# Altium schematic symbol library DMD_Card.SchLib: 58 symbols
Pins are listed as number, name and electrical type; pins without a type are passive.

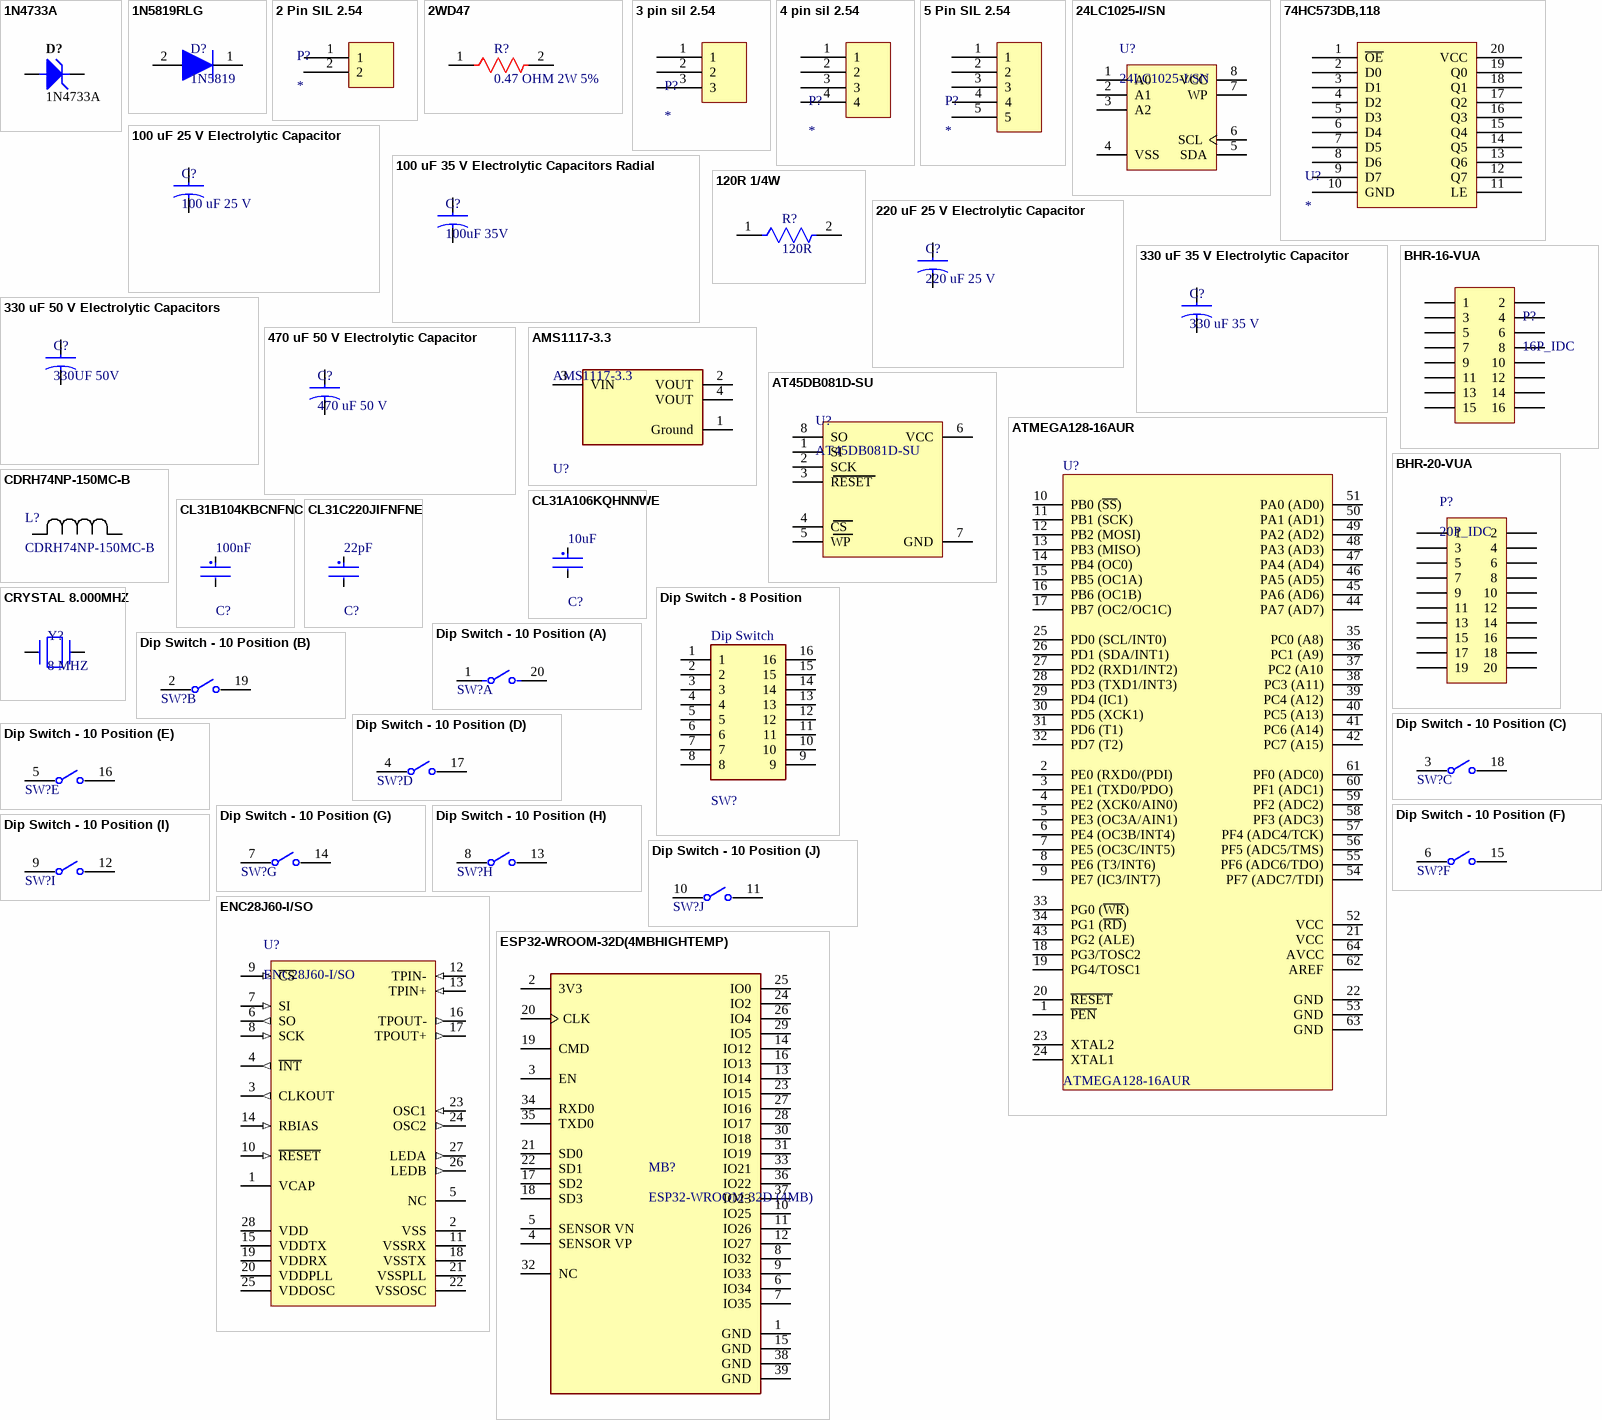
[diagram p0: symbols 1N4733A to ESP32-WROOM-32D(4MBHIGHTEMP)]

## 1N4733A
designator D?
Zener Diode, 5.1V, 1W, 5%, -65 to 200 degC, 2-Pin DO-41, Body 2.72 x 5.2 mm, RoHS; Manufacturer: Fairchild Semiconductor; ZZ (Max) (ohm): 7; IR (uA): 10; VZ (Min.) (V): 4.845; Test Current IZ (mA): 49; VZ (Max.) (V): 5.355; PD (W): 1; PartNumber: 1N4733A; Tolerance: 5%; ComponentLink1Description: Manufacturer URL; ComponentLink2Description: Datasheet; DatasheetVersion: Rev. H3; ComponentLink3URL: http://www.fairchildsemi.com/dwg/DO/DO41A.pdf; ComponentLink1URL: http://www.fairchildsemi.com/; Operating and Storage Temperature Range: -65 to 200 degC; ComponentLink2URL: http://www.fairchildsemi.com/ds/1N/1N4744A.pdf; PackageReference: DO-41-2; ComponentLink3Description: Package Specification; PackageVersion: Rev. 2; RoHS: TRUE; Mounting Technology: Through Hole; PackageDescription: 2-Pin Axial leaded, Body 2.72 x 5.2 mm, Lead Spread 25.4 mm
footprint Zener Diode - 41-2_V (2-Leads, Axial leaded, Body 2.72x5.2mm, Pin Spacing 9mm)
pins: 1 A, 2 K

## 1N5819RLG
designator D?, comment 1N5819
Rectifier, 2-Pin Axial_Lead, Pb-Free, Tape and Reel; Manufacturer: On Semiconductor; PartNumber: 1N5819RLG; IFSM Max (A): 25; Configuration: Single; ComponentLink1Description: Manufacturer URL; ComponentLink2Description: Datasheet; ComponentLink3Description: Package Specification; Mounting Technology: Through Hole; ComponentLink3URL: http://www.onsemi.cn/pub_link/Collateral/59-10.PDF; DatasheetVersion: Rev. 10; ComponentLink1URL: http://www.onsemi.com/; Packing: Tape and Reel; PackageVersion: Rev. U, 02/2005; PackageDescription: 2-Pin, Axial Lead, Diameter 2.35 mm; ComponentLink2URL: http://www.onsemi.cn/pub_link/Collateral/1N5817-D.PDF; RoHS: TRUE; PackageReference: AXIAL_LEAD-2-59-10; Supplier 1: Newark; Supplier Part Number 1: 18C9038
footprint SMA (DO-214AC)
pins: 1 K, 2 A

## 2 Pin SIL 2.54
designator P?
footprint 2 Pin SIL 2.54
pins: 1, 2

## 2WD47
designator R?, comment 0.47 OHM 2W 5%
RESISTOR 2 WATT METAL OXIDE FILM FLAMEPROOF 0.47 OHM 5% AXIAL LEAD; Manufacturer: NTE Electronics; Manufacturer Part Number: 2WD47; Resistance: 470mR; Temperature Coefficient: 200ppm/°C; Supplier 1: Newark; RoHS: Yes; Category: Through-Hole Resistors; Pricing 1: 1=0.18800 (USD); Mount: Through Hole; Case/Package: Metal; Weight: 0.0024lb; Min Operating Temperature: -55°C; Max Operating Temperature: 200°C; Tolerance: 5%; Power Rating: 2W; Termination: Axial; Length: 3.25inch; Width: 0.25inch; Height: 0.25inch; RoHS Compliant: No; ComponentLink1URL: http://www.onlinecomponents.com/productFiles/mf-NTE/twow.pdf?src-supplier=Onlinecomponents.com; ComponentLink1Description: http://www.onlinecomponents.com/productFiles/mf-NTE/twow.pdf?src-supplier=Onlinecomponents.com; ComponentLink2URL: http://www.alliedelec.com/m/d/d44ce2bb19ec670cc5afc3c1f91c41cf.pdf?src-supplier=Allied+Electronics; ComponentLink2Description: http://www.alliedelec.com/m/d/d44ce2bb19ec670cc5afc3c1f91c41cf.pdf?src-supplier=Allied+Electronics; Supplier Part Number 1: 33C8349
footprint Axial 0.6
pins: 1, 2

## 3 pin sil 2.54
designator P?
footprint 3 pin sil 2.54
pins: 1, 2, 3

## 4 pin sil 2.54
designator P?
footprint 4 pin sil 2.54
pins: 1, 2, 3, 4

## 5 Pin SIL 2.54
designator P?
footprint 5 Pin SIL 2.54
pins: 1, 2, 3, 4, 5

## 24LC1025-I/SN
designator U?
1 Mbit, 400kHz, 2.5V, 8-Pin SOIC 150mil, Industrial Temperature; DatasheetVersion: revF, Oct-2008; Code_JEDEC: MS-012; Code_IPC: SOIC127P600-8; PackageVersion: revBB, Aug-2009; PackageDescription: 8-Lead Plastic Small Outline (SN) - Narrow, 3.90mm Body [SOIC]; PackageReference: SOIC-SN8; PartNumber: 24LC1025-I/SN; Supplier 1: Digi-Key; Supplier Part Number 1: 24LC1025-I/SN-ND
footprint SOIC-8 (SOIC, 8-Leads, Body 4.9x3.9mm, Pitch 1.27mm, IPC Low Density)
pins: 1 A0, 2 A1, 3 A2, 4 VSS, 5 SDA, 6 SCL, 7 WP, 8 VCC

## 74HC573DB,118
designator U?
IC LATCH TRANSP OCT D 3ST 20SSOP; Manufacturer: NXP Semiconductors; Manufacturer Part Number: 74HC573DB,118; Logic Function: D-Type,Latch; Number of Bits: 8; Propagation Delay: 225ns; Max Supply Voltage: 6V; Min Supply Voltage: 2V; Polarity: Non-Inverting; High Level Output Current: 7.8mA; Operating Supply Voltage: 5V; Number of Elements: 1; Turn-On Delay Time: 14ns; Output Type: 3-STATE; Quiescent Current: 8uA; Supplier 1: Newark; RoHS: Yes; Category: Latches and Flip Flops; Stock 1: 218; Pricing 1: 1=0.94000, 10=0.77600, 25=0.68000, 50=0.58500, 100=0.48900 (USD); Mount: Surface Mount; Case/Package: SSOP; Number of Pins: 20; Contact Plating: Gold; Min Operating Temperature: -40°C; Max Operating Temperature: 125°C; Packaging: Tape and Reel; Low Level Output Current: 7.8mA; Package Quantity: 1000; Number of Circuits: 8; Number of Output Lines: 8; Number of Input Lines: 8; Independent Circuits: 1; Technology: CMOS; Series: 74HC; Radiation Hardening: No; RoHS Compliant: Yes; ComponentLink1URL: https://datasheet.ciiva.com/1881/74hc-hct573-1881397.pdf?src-supplier=Digi-Key; ComponentLink1Description: https://datasheet.ciiva.com/1881/74hc-hct573-1881397.pdf?src-supplier=Digi-Key
footprint SOIC127P1030X265-20N
pins: 1 ~{OE}, 2 D0, 3 D1, 4 D2, 5 D3, 6 D4, 7 D5, 8 D6, 9 D7, 10 GND, 11 LE, 12 Q7, 13 Q6, 14 Q5, 15 Q4, 16 Q3, 17 Q2, 18 Q1, 19 Q0, 20 VCC

## 100 uF 25 V Electrolytic Capacitor
designator C?, comment 100 uF 25 V
RZ Series Radial 25 V 100 uF Ø 6.3 x 11 mm 105 °C Electrolytic Capacitor; Manufacturer: Samwha; Manufacturer Part Number: RZ1E107M6L011BB280; Capacitance: 100uF; Voltage Rating: 25V; Supplier 1: Future Electronics; RoHS: Yes; Pricing 1: 3600=0.03300 (USD); Case/Package: Radial; Lead Free: Lead Free; ComponentLink1URL: http://www.samwha.com/electric/product/list_pdf2/RZ.pdf?src-supplier=Future+Electronics; ComponentLink1Description: http://www.samwha.com/electric/product/list_pdf2/RZ.pdf?src-supplier=Future+Electronics; Supplier Part Number 1: 1048642
footprint Electrolytic Capacitors_6.3 mm Dia
pins: 1, 2

## 100 uF 35 V Electrolytic Capacitors Radial
designator C?, comment 100uF 35V
Aluminum Electrolytic Capacitors Radial, Can - 1000 Hrs @ 105°C; Manufacturer: Panasonic; Manufacturer Part Number: EEU-HD1V101; Tolerance: 20%; Ripple Current: 150mA; Life (Hours): 1000Hour; Lead/Base Style: Straight; Polarity: Polar; Lead Diameter: 0.5mm; Supplier 1: Digi-Key; RoHS: Yes; Category: Aluminum Electrolytic Capacitors; Pricing 1: 1=0.85000, 10=0.60000, 50=0.45340, 100=0.39500, 500=0.29256, 1000=0.24868, 2500=0.23405, 5000=0.21942 (USD); Mount: Through Hole; Case/Package: Radial; Number of Pins: 2; Min Operating Temperature: -55°C; Max Operating Temperature: 105°C; Capacitance: 100uF; Packaging: Bulk; Voltage Rating: 35V; Package Quantity: 200; Voltage Rating (DC): 35V; Termination: Radial; Ripple Current (AC): 150mA; Voltage: 35V; Series: HD; Construction: RADIAL; Diameter: 6.3mm; Length: 11.2mm; Height: 11.2mm; Lead Pitch: 2.5mm; Height - Seated (Max): 0.5inch; Radiation Hardening: No; REACH SVHC: No SVHC; Lead Free: Lead Free; RoHS Compliant: Yes; ComponentLink1URL: https://datasheet.ciiva.com/11779/0900766b80fe5b03-11779839.pdf?src-supplier=RSComponents; ComponentLink1Description: https://datasheet.ciiva.com/11779/0900766b80fe5b03-11779839.pdf?src-supplier=RSComponents; Supplier Part Number 1: P15169-ND
footprint CAP_PAN_EEE_D8_PAN
pins: 1, 2

## 120R 1/4W
designator R?, comment 120R
RES 120 OHM 1/4W 0.1% AXIAL; Manufacturer: Yageo; Manufacturer Part Number: MFP-25BRD52-120R; Max Power Dissipation: 250mW; Temperature Coefficient: 25ppm/°C; Supplier 1: Digi-Key; RoHS: Yes; Category: Through-Hole Resistors; Stock 1: 4420; Pricing 1: 1=0.70000, 10=0.49900, 25=0.38960, 50=0.32960, 100=0.25970, 250=0.21972, 500=0.17978, 1000=0.13983 (USD); Case/Package: Axial; Min Operating Temperature: -55°C; Max Operating Temperature: 155°C; Package Quantity: 1; Resistance: 120R; Tolerance: 0.1%; Packaging: Tape and Reel; Resistor Type: Metal Film; Number of Terminations: 2; Series: MFP; Length: 0.248inch; Lead Free: Lead Free; RoHS Compliant: Yes; ComponentLink1URL: https://datasheet.ciiva.com/2713/yageolr-mfp-2013-2713048.pdf?src-supplier=Digi-Key; ComponentLink1Description: https://datasheet.ciiva.com/2713/yageolr-mfp-2013-2713048.pdf?src-supplier=Digi-Key; ComponentLink2URL: https://datasheet.ciiva.com/2713/yageolr-mfp-2013-2713049.pdf?src-supplier=Digi-Key; ComponentLink2Description: https://datasheet.ciiva.com/2713/yageolr-mfp-2013-2713049.pdf?src-supplier=Digi-Key; Supplier Part Number 1: 120ADCT-ND
footprint AXIAL 0.4
pins: 1, 2

## 220 uF 25 V Electrolytic Capacitor
designator C?, comment 220 uF 25 V
SD Series 25 V 220 uF 85°C 2 KHrs LS=3.5mm Radial Alum Electrolytic Capacitor; Manufacturer: Samwha; Manufacturer Part Number: SD1E227M0811MPF180; Supplier 1: Future Electronics; RoHS: No; Pricing 1: 1000=0.031500 (USD); Supplier Part Number 1: 5083998
footprint Multy_Radial_Capacitor
pins: 1, 2

## 330 uF 35 V Electrolytic Capacitor
designator C?, comment 330 uF 35 V
WB Series 35 V 330 uF 10 x 16 mm LS=5 mm 105°C Aluminum Electrolytic Capacitor; Manufacturer: Samwha; Manufacturer Part Number: WB1V337M10016BB; Supplier 1: Future Electronics; RoHS: No; Pricing 1: 1000=0.09360, 3000=0.07780, 4000=0.07720, 10000=0.07560, 15000=0.07490 (USD); Lead Free: Lead Free; Supplier Part Number 1: 2051425
footprint Multy_Radial_Capacitor
pins: 1, 2

## 330 uF 50 V Electrolytic Capacitors
designator C?, comment 330UF 50V
Aluminum Electrolytic Capacitors Radial, Can - 10000 Hrs @ 105°C; Manufacturer: Rubycon; Manufacturer Part Number: 50YXJ330M10X20; Tolerance: 20%; Ripple Current: 1.22A; Impedance: 60mR; Life (Hours): 10000Hour; Supplier 1: Digi-Key; RoHS: Yes; Category: Aluminum Electrolytic Capacitors; Stock 1: 72; Pricing 1: 1=0.82000, 10=0.57600, 50=0.43560, 100=0.37940, 500=0.28106, 1000=0.23890, 2500=0.22485, 5000=0.21080 (USD); Mount: Through Hole; Case/Package: Radial; Min Operating Temperature: -40°C; Max Operating Temperature: 105°C; Capacitance: 330uF; Termination: Radial; Package Quantity: 1000; Voltage Rating: 50V; Packaging: Bulk; Voltage Rating (DC): 50V; Series: YXJ; Diameter: 10mm; Height: 20mm; Lead Pitch: 5mm; Height - Seated (Max): 0.866inch; Radiation Hardening: No; REACH SVHC: No SVHC; RoHS Compliant: Yes; ComponentLink1URL: https://datasheet.ciiva.com/46371/1657883-46371898.pdf?src-supplier=Element14; ComponentLink1Description: https://datasheet.ciiva.com/46371/1657883-46371898.pdf?src-supplier=Element14; ComponentLink2URL: https://datasheet.ciiva.com/17513/e-yxj-17513675.pdf?src-supplier=Avnet+Europe; ComponentLink2Description: https://datasheet.ciiva.com/17513/e-yxj-17513675.pdf?src-supplier=Avnet+Europe; Supplier Part Number 1: 1189-1424-ND
footprint CAP_PAN_EEE_D8_PAN
pins: 1, 2

## 470 uF 50 V Electrolytic Capacitor
designator C?, comment 470 uF 50 V
RZ Series Radial 50 V 470 uF Ø 12.5 x 25 mm 105 °C Electrolytic Capacitor; Manufacturer: Samwha; Manufacturer Part Number: RZ1H477M12025BB200; Capacitance: 470uF; Voltage Rating: 50V; Supplier 1: Future Electronics; RoHS: Yes; Pricing 1: 900=0.14700 (USD); Case/Package: Radial; Lead Free: Lead Free; ComponentLink1URL: https://datasheet.ciiva.com/17436/rz-17436439.pdf?src-supplier=Future+Electronics; ComponentLink1Description: https://datasheet.ciiva.com/17436/rz-17436439.pdf?src-supplier=Future+Electronics; Supplier Part Number 1: 1060779
footprint Multy_Radial_Capacitor
pins: 1, 2

## AMS1117-3.3
designator U?
Fixed 15V 3.3V 1.3V @ 800mA SOT-223 Dropout Regulators(LDO) RoHS
footprint Advanced_Monolithic_Systems_AMS1117_IPC_A
pins: 1 Ground (power), 2 VOUT, 3 VIN (power), 4 VOUT

## AT45DB081D-SU
designator U?
IC FLASH 8MBIT 66MHZ 8SOIC, FLASH Memory IC 8Mb (264 Bytes x 4096 pages) SPI 8-SOIC; Manufacturer: Microchip / Atmel; Interface: SPI,Serial; Max Supply Voltage: 3.6V; Min Supply Voltage: 2.7V; Address Bus Width: 1b; Memory Type: FLASH,DataFLASH; Frequency: 50MHz; Access Time: 6ns; Nominal Supply Current: 15mA; Sync/Async: Synchronous; Supplier 1: Digi-Key; Manufacturer Part Number: AT45DB081D-SU; RoHS: Yes; Category: Flash; Mount: Surface Mount; Case/Package: SOIC; Number of Pins: 8; Min Operating Temperature: -40°C; Max Operating Temperature: 85°C; Packaging: Rail/Tube; Density: 8Mb; Memory Size: 8Mb; Package Quantity: 95; Series: -; Access Time-Max: 6ns; Supply Current: 15mA; Length: 5.38mm; Width: 5.41mm; Height: 1.7mm; Radiation Hardening: No; RoHS Compliant: Yes; REACH SVHC: No SVHC; ComponentLink1URL: https://datasheet.ciiva.com/15126/getdatasheetpartid-364798-15126466.pdf?src-supplier=Verical; ComponentLink1Description: https://datasheet.ciiva.com/15126/getdatasheetpartid-364798-15126466.pdf?src-supplier=Verical; ComponentLink2URL: https://datasheet.ciiva.com/20167/73-4344-20167523.pdf?src-supplier=Rapid+Electronics; ComponentLink2Description: https://datasheet.ciiva.com/20167/73-4344-20167523.pdf?src-supplier=Rapid+Electronics; ComponentLink3URL: https://datasheet.ciiva.com/26869/at45db081d-su-26869104.pdf?src-supplier=IIIC; ComponentLink3Description: https://datasheet.ciiva.com/26869/at45db081d-su-26869104.pdf?src-supplier=IIIC; ComponentLink4URL: https://datasheet.ciiva.com/1904/at45db081d-1904487.pdf?src-supplier=Digi-Key; ComponentLink4Description: https://datasheet.ciiva.com/1904/at45db081d-1904487.pdf?src-supplier=Digi-Key; ComponentLink5URL: https://datasheet.ciiva.com/1564/97337-1564970.pdf?src-supplier=Farnell; ComponentLink5Description: https://datasheet.ciiva.com/1564/97337-1564970.pdf?src-supplier=Farnell; ComponentLink6URL: https://datasheet.ciiva.com/1510/97337-1510039.pdf?src-supplier=Element14; ComponentLink6Description: https://datasheet.ciiva.com/1510/97337-1510039.pdf?src-supplier=Element14; Supplier Part Number 1: AT45DB081D-SU-ND
footprint SOIC-8 (SOIC, 8-Leads, Body 4.9x3.9mm, Pitch 1.27mm, IPC Low Density)
pins: 1 SI, 2 SCK, 3 RESET, 4 CS, 5 WP, 6 VCC (power), 7 GND (power), 8 SO

## ATMEGA128-16AUR
designator U?
8-bit AVR Microcontroller, 4.5-5.5V, 128KB Flash, 4KB EEPROM, 4KB SRAM, 64-pin TQFP, Industrial Grade (-40°C to 85°C), Reel; ComponentLink1Description: Manufacturer URL; ComponentLink2Description: ATmega128(L) Datasheet; DatasheetVersion: revX, Jun-2011; ComponentLink3URL: http://www.atmel.com/dyn/resources/prod_documents/2467S.pdf; ComponentLink3Description: ATmega128(L) Summary; ComponentLink1URL: http://www.atmel.com/; Code_JEDEC: MS-026-AEB; PackageVersion: revC, Oct-2010; PackageDescription: 64-Pin Plastic Thin Profile Quad Flat Pack, 14 x 14 x 1.0 mm Body, 0.8 mm Pitch (TQFP); ComponentLink2URL: http://www.atmel.com/dyn/resources/prod_documents/doc2467.pdf; PackageReference: 64A; PartNumber: ATMEGA128-16AUR
footprint 64-TQFP (Thin QFP, 64-Leads, Body 14x14mm, Pitch 0.8mm, IPC Low Density)
pins: 1 ~{PEN}, 2 PE0 (RXD0/(PDI), 3 PE1 (TXD0/PDO), 4 PE2 (XCK0/AIN0), 5 PE3 (OC3A/AIN1), 6 PE4 (OC3B/INT4), 7 PE5 (OC3C/INT5), 8 PE6 (T3/INT6), 9 PE7 (IC3/INT7), 10 PB0 (~{SS}), 11 PB1 (SCK), 12 PB2 (MOSI), 13 PB3 (MISO), 14 PB4 (OC0), 15 PB5 (OC1A), 16 PB6 (OC1B), 17 PB7 (OC2/OC1C), 18 PG3/TOSC2, 19 PG4/TOSC1, 20 ~{RESET}, 21 VCC (power), 22 GND (power), 23 XTAL2, 24 XTAL1, 25 PD0 (SCL/INT0), 26 PD1 (SDA/INT1), 27 PD2 (RXD1/INT2), 28 PD3 (TXD1/INT3), 29 PD4 (IC1), 30 PD5 (XCK1), 31 PD6 (T1), 32 PD7 (T2), 33 PG0 (~{WR}), 34 PG1 (~{RD}), 35 PC0 (A8), 36 PC1 (A9), 37 PC2 (A10, 38 PC3 (A11), 39 PC4 (A12), 40 PC5 (A13), 41 PC6 (A14), 42 PC7 (A15), 43 PG2 (ALE), 44 PA7 (AD7), 45 PA6 (AD6), 46 PA5 (AD5), 47 PA4 (AD4), 48 PA3 (AD3), 49 PA2 (AD2), 50 PA1 (AD1), 51 PA0 (AD0), 52 VCC (power), 53 GND (power), 54 PF7 (ADC7/TDI), 55 PF6 (ADC6/TDO), 56 PF5 (ADC5/TMS), 57 PF4 (ADC4/TCK), 58 PF3 (ADC3), 59 PF2 (ADC2), 60 PF1 (ADC1), 61 PF0 (ADC0), 62 AREF, 63 GND (power), 64 AVCC (power)

## BHR-16-VUA
designator P?, comment 16P_IDC
Headers & Wire Housings 16P STRAIGHT; Manufacturer: Adam Equipment; Manufacturer Part Number: BHR-16-VUA; Current Rating: 1A; Number of Positions: 16; Pitch: 2.54mm; Supplier 1: Digi-Key; RoHS: Yes; Category: Connectors; Stock 1: 804; Pricing 1: 1=0.45000, 10=0.42400, 100=0.29690, 500=0.25452, 1000=0.21210, 5000=0.18180, 10000=0.16968 (USD); Contact Plating: Gold; Contact Material: Brass; Package Quantity: 276; Number of Rows: 2; Packaging: Tray; Orientation: Straight; Termination: IDC; Lead Free: Lead Free; ComponentLink1URL: https://datasheet.ciiva.com/16418/page-319-321-16418937.pdf?src-supplier=Future+Electronics; ComponentLink1Description: https://datasheet.ciiva.com/16418/page-319-321-16418937.pdf?src-supplier=Future+Electronics; Supplier Part Number 1: 2057-BHR-16-VUA-ND
footprint 16Pin_IDC_Connector
pins: 1, 2, 3, 4, 5, 6, 7, 8, 9, 10, 11, 12, 13, 14, 15, 16

## BHR-20-VUA
designator P?, comment 20P_IDC
Conn Shrouded Header (4 Sides) HDR 20 POS 2.54mm Solder ST Top Entry Thru-Hole Tray; Manufacturer: Adam Equipment; Manufacturer Part Number: BHR-20-VUA; Current Rating: 1A; Number of Positions: 20; Supplier 1: Digi-Key; RoHS: Yes; Category: Connectors; Stock 1: 1576; Pricing 1: 1=0.44000, 10=0.41700, 160=0.31944, 480=0.27775, 800=0.24998, 5120=0.20137, 10080=0.18748 (USD); Contact Material: Brass; Contact Plating: Gold; Number of Rows: 2; Packaging: Tray; Package Quantity: 216; Termination: IDC; Pitch: 2.54mm; Lead Free: Lead Free; ComponentLink1URL: https://datasheet.ciiva.com/16418/page-319-321-16418950.pdf?src-supplier=Future+Electronics; ComponentLink1Description: https://datasheet.ciiva.com/16418/page-319-321-16418950.pdf?src-supplier=Future+Electronics; Supplier Part Number 1: 2057-BHR-20-VUA-ND
footprint 20Pin_IDC_Connector
pins: 1, 2, 3, 4, 5, 6, 7, 8, 9, 10, 11, 12, 13, 14, 15, 16, 17, 18, 19, 20

## CDRH74NP-150MC-B
designator L?
No Description Available; Mfr_Name: Sumida; Type: DEV; Copyright: Copyright (C) 2022 Ultra Librarian. All rights reserved.; Manufacturer_Part_Number: CDRH74NP-150MC-B; RefDes: RefDes
footprint IND_CDRH74_SUM
pins: 1, 2

## CL31A106KQHNNWE
designator C?, comment 10uF
CAP CER 10UF 6.3V X5R 1206, ±10% 6.3V Ceramic Capacitor X5R 1206 (3216 Metric); Supplier 1: Digi-Key; Supplier Part Number 1: 1276-3043-1-ND
footprint Samsung_CL31_IPC_A_1206
pins: 1, 2

## CL31B104KBCNFNC
designator C?, comment 100nF
CAP CER 0.1UF 50V X7R 1206, ±10% 50V Ceramic Capacitor X7R 1206 (3216 Metric); Supplier 1: Digi-Key; Supplier Part Number 1: 1276-2744-1-ND
footprint Samsung_CL31_IPC_A_1206
pins: 1, 2

## CL31C220JIFNFNE
designator C?, comment 22pF
CAP CER 22PF 1KV C0G/NP0 1206, ±5% 1000V (1kV) Ceramic Capacitor C0G, NP0 1206 (3216 Metric); Supplier 1: Digi-Key; Supplier Part Number 1: 1276-3227-1-ND
footprint Samsung_CL31_IPC_A_1206
pins: 1, 2

## CRYSTAL 8.000MHZ
designator Y?, comment 8 MHZ
CRYSTAL 8.000MHZ 20PF THRU; Manufacturer: TXC; Manufacturer Part Number: 9B-8.000MBBK-B; Frequency Stability: 50ppm; Frequency: 8MHz; ESR (Equivalent Series Resistance): 80R; Supplier 1: Digi-Key; RoHS: Yes; Category: Crystals; Pricing 1: 1000=0.16000 (USD); Mount: Through Hole; Case/Package: Metal; Min Operating Temperature: -20°C; Max Operating Temperature: 70°C; Package Quantity: 1000; Frequency Tolerance: 50ppm; Load Capacitance: 20pF; Packaging: Bulk; Length: 0.453inch; Width: 0.197inch; Height: 0.145inch; ComponentLink1URL: https://datasheet.ciiva.com/6733/9b-6733750.pdf?src-supplier=Digi-Key; ComponentLink1Description: https://datasheet.ciiva.com/6733/9b-6733750.pdf?src-supplier=Digi-Key; ComponentLink2URL: https://datasheet.ciiva.com/29631/9b-29631174.pdf?src-supplier=Digi-Key; ComponentLink2Description: https://datasheet.ciiva.com/29631/9b-29631174.pdf?src-supplier=Digi-Key; Supplier Part Number 1: 887-2033-ND
footprint CTS_ATS080B_0
pins: 1, 2

## Dip Switch - 8 Position
designator SW?, comment Dip Switch
SWITCH ROCKER DIP SPST 150MA 30V, Dip Switch SPST Position Through Hole Rocker Actuator 150mA 30VDC; Supplier 1: Digi-Key; Supplier Part Number 1: GH7176-ND
footprint Dip Switch - 8 Position
pins: 1, 2, 3, 4, 5, 6, 7, 8, 9, 10, 11, 12, 13, 14, 15, 16

## Dip Switch - 10 Position
designator SW?, comment Dip Switch  (value not drawn)
SWITCH SLIDE DIP SPST 100MA 24V, Dip Switch SPST Position Through Hole Slide (Standard) Actuator 100mA 24VDC; Supplier 1: Digi-Key; Supplier Part Number 1: 1825360-6-ND
footprint Dip Switch - 10 Position
part A pins: 1, 20
part B pins: 2, 19
part C pins: 3, 18
part D pins: 4, 17
part E pins: 5, 16
part F pins: 6, 15
part G pins: 7, 14
part H pins: 8, 13
part I pins: 9, 12
part J pins: 10, 11

## ENC28J60-I/SO
designator U?
Stand-Alone Ethernet Controller with SPI Interface, 28-Pin SOIC, Industrial Temperature; ComponentLink1Description: Manufacturer URL; ComponentLink2Description: Datasheet; DatasheetVersion: revC, Jan-2008; ComponentLink3URL: http://www.microchip.com/stellent/groups/techpub_sg/documents/packagingspec/en012702.pdf; ComponentLink3Description: Package Specification; ComponentLink1URL: http://www.microchip.com/; Code_JEDEC: MS-013; RevisionNote: URLs added.; PackageVersion: revBB, Aug-2009; PackageDescription: 28-Lead Plastic Small Outline (SO) - Wide 7.50mm Body [SOIC]; ComponentLink2URL: http://ww1.microchip.com/downloads/en/DeviceDoc/39662c.pdf; PackageReference: SOIC-SO28; PartNumber: ENC28J60-I/SO; Supplier 1: RSComponents; Supplier Part Number 1: 6988987
footprint SOIC-SO28_M (SOIC, 28-Leads, Body 17.9x7.5mm, Pitch 1.27mm, IPC Low Density)
pins: 1 VCAP (power), 2 VSS (power), 3 CLKOUT (out), 4 ~{INT} (out), 5 NC, 6 SO (out), 7 SI (in), 8 SCK (in), 9 ~{CS} (in), 10 ~{RESET} (in), 11 VSSRX (power), 12 TPIN- (in), 13 TPIN+ (in), 14 RBIAS (in), 15 VDDTX (power), 16 TPOUT- (out), 17 TPOUT+ (out), 18 VSSTX (power), 19 VDDRX (power), 20 VDDPLL (power), 21 VSSPLL (power), 22 VSSOSC (power), 23 OSC1 (in), 24 OSC2 (out), 25 VDDOSC (power), 26 LEDB (out), 27 LEDA (out), 28 VDD (power)

## ESP32-WROOM-32D(4MBHIGHTEMP)
designator MB?, comment ESP32-WROOM-32D (4MB)
Bluetooth, WiFi 802.11b/g/n, Bluetooth v4.2 +EDR, Class 1, 2 and 3 Transceiver Module 2.4GHz ~ 2.5GHz Integrated, Trace Surface Mount; Manufacturer: Espressif Systems; Manufacturer Part Number: ESP32-WROOM-32D(4MBHIGHTEMP); RoHS: No; Supplier 1: DigiKey; Supplier 2: Digi-Key; Supplier Part Number 1: 1965-ESP32-WROOM-32D(4MBHIGHTEMP)DKR-ND
footprint Espressif_Systems_0_MFG
pins: 1 GND, 2 3V3, 3 EN, 4 SENSOR VP, 5 SENSOR VN, 6 IO34, 7 IO35, 8 IO32, 9 IO33, 10 IO25, 11 IO26, 12 IO27, 13 IO14, 14 IO12, 15 GND, 16 IO13, 17 SD2, 18 SD3, 19 CMD, 20 CLK, 21 SD0, 22 SD1, 23 IO15, 24 IO2, 25 IO0, 26 IO4, 27 IO16, 28 IO17, 29 IO5, 30 IO18, 31 IO19, 32 NC, 33 IO21, 34 RXD0, 35 TXD0, 36 IO22, 37 IO23, 38 GND, 39 GND

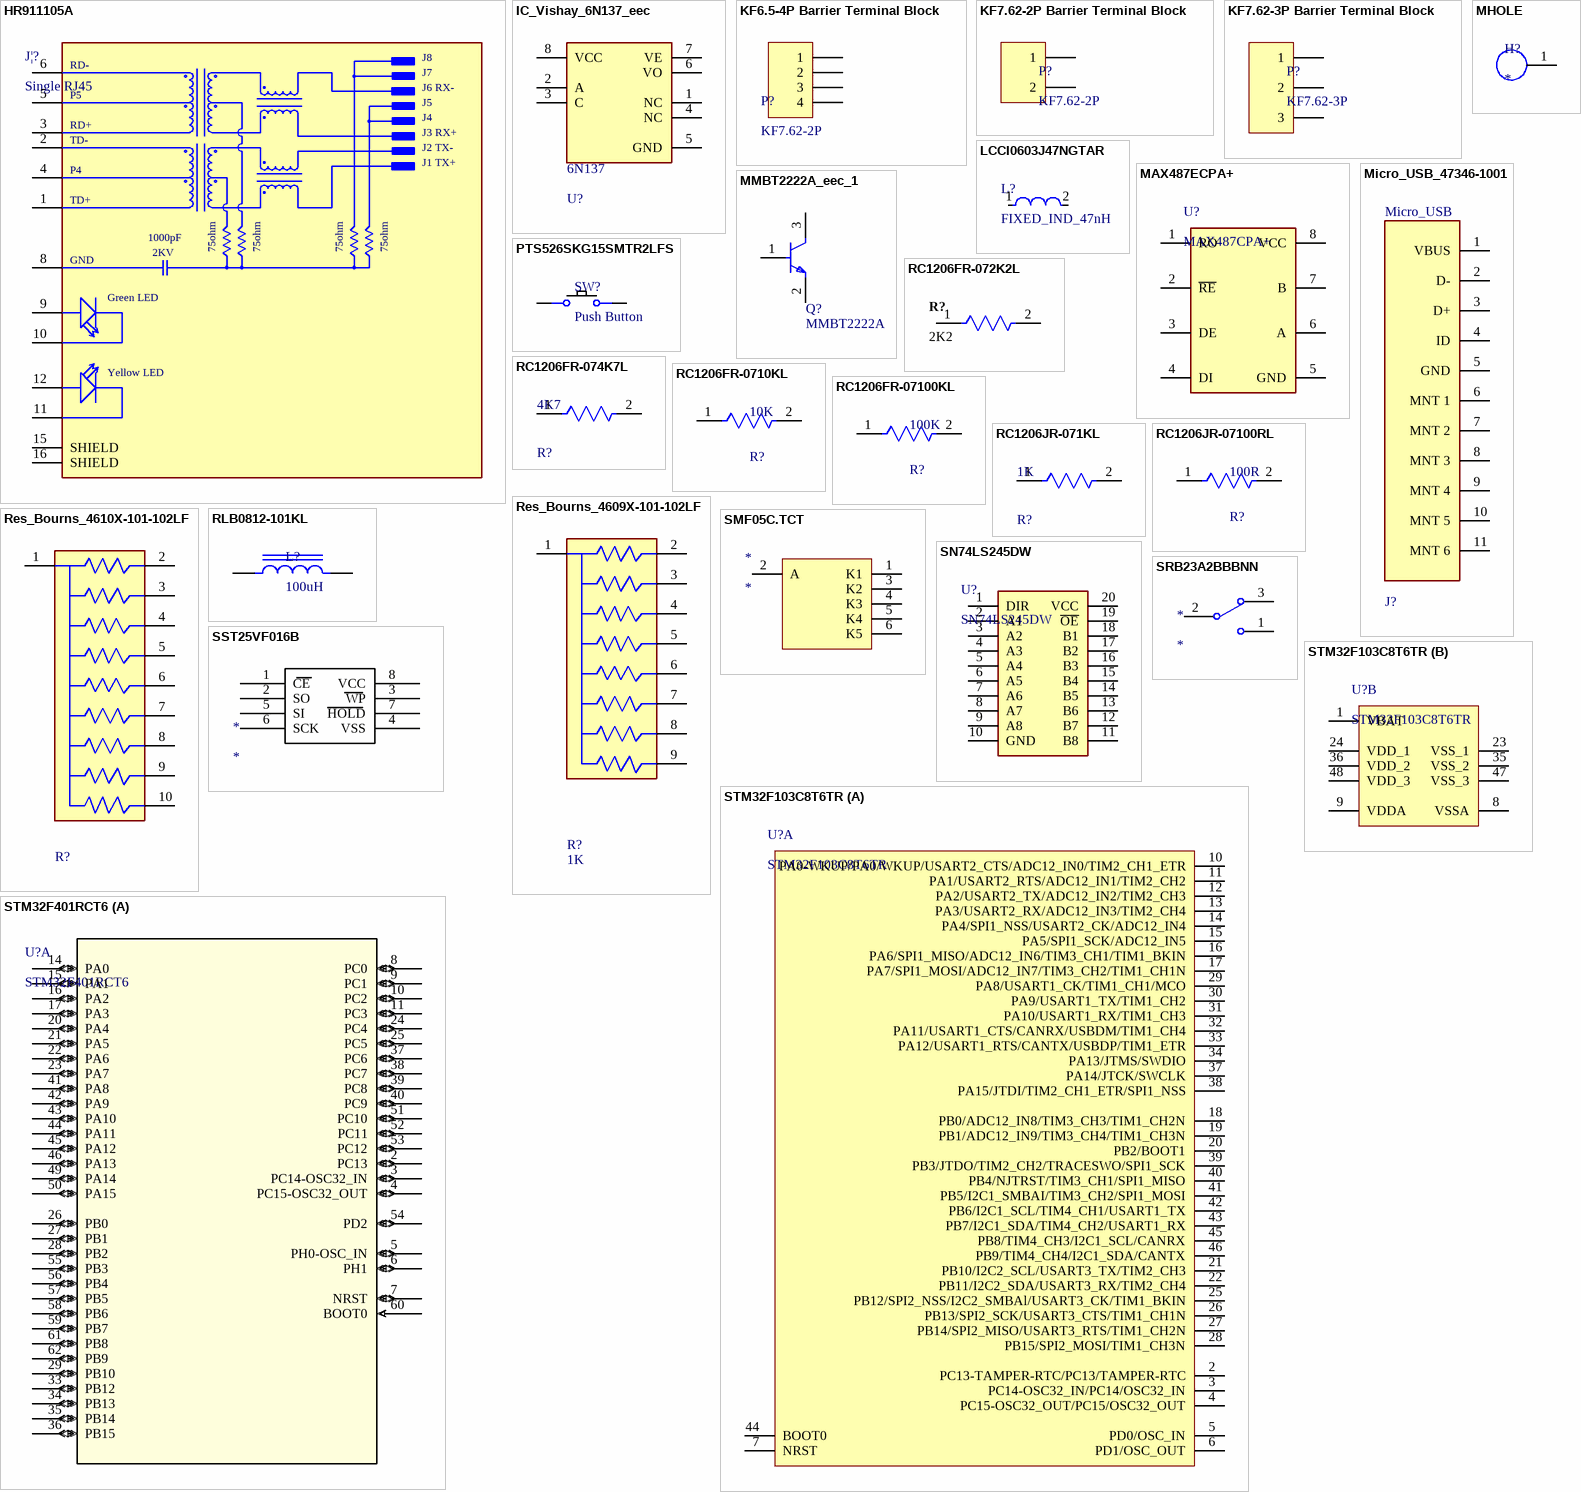
[diagram p1: symbols HR911105A to STM32F401RCT6]

## HR911105A
designator J|?, comment Single RJ45
HR911105A Ethernet Interface Arduino Platform Evaluation Expansion Board; MF: DFRobot; Package: None; Availability: Unavailable; MP: HR911105A; Value: *; SnapEDA_Link: https://www.snapeda.com/parts/HR911105A/DFRobot/view-part/214807/?ref=snap; Price: None
footprint HANRUN_HR911105A
pins: 1 TD+, 2 TD-, 3 RD+, 4 P4, 5 P5, 6 RD-, 8 GND (power), 9 GA, 10 GC, 11 YC, 12 YA, 15 SHIELD, 16 SHIELD
text: J8; J7; J6 RX-; J5; J4; J3 RX+; J2 TX-; J1 TX+; 1000pF; 75ohm; 2KV; Green LED; Yellow LED

## IC_Vishay_6N137_eec
designator U?  Part Number: 6N137
IC OPTOISO 5.3KV 1CH OPN DRAIN 8DIP; Manufacturer: Vishay; helpURL: https://upverter.com/upn/revision/90ff24e5d1aaa85f/; ComponentLink2Description: Datasheet; Temperature: -40°C to +100°C; Package: DIP8; Supplier 2: Mouser; Price: 1.00620280459; Supplier 1: Digi-Key; ComponentLink1URL: https://upverter.com/upn/revision/90ff24e5d1aaa85f/; Supplier Part Number 2: 782-6N137; Supplier Part Number 1: 751-1262-5-ND; ComponentLink1Description: Upverter; ComponentLink2URL: http://www.vishay.com/docs/84732/6n137.pdf; RoHS: TRUE; Mouser Part Number: 782-6N137; Ipc Land Pattern Name: DIP762W50P254L1016H425Q8; Temperature Range High: +100°C; Digikey Description: IC OPTOISO 5.3KV 1CH OPN DRAIN 8DIP; Digikey Part Number: 751-1262-5-ND; Lead Free: yes; Temperature Range Low: -40°C
footprint DIP_08
pins: 1 NC, 2 A, 3 C, 4 NC, 5 GND, 6 VO, 7 VE, 8 VCC

## KF6.5-4P Barrier Terminal Block
designator P?, comment KF7.62-2P
KF7.62-2P Barrier Terminal Block, 7.62mm spacing barrier terminals with side expandable slot. The terminal accepts wire gauge of 22~12AWG. Connectors are available black PA66 material.
footprint KF6.5-4P Barrier Terminal Block
pins: 1, 2, 3, 4

## KF7.62-2P Barrier Terminal Block
designator P?, comment KF7.62-2P
KF7.62-2P Barrier Terminal Block, 7.62mm spacing barrier terminals with side expandable slot. The terminal accepts wire gauge of 22~12AWG. Connectors are available black PA66 material.
footprint KF7.62-2P Barrier Terminal Block
pins: 1, 2

## KF7.62-3P Barrier Terminal Block
designator P?, comment KF7.62-3P
KF7.62-3P Barrier Terminal Block, 7.62mm spacing barrier terminals with side expandable slot. The terminal accepts wire gauge of 22~12AWG. Connectors are available black PA66 material.
footprint KF7.62-3P Barrier Terminal Block
pins: 1, 2, 3

## LCCI0603J47NGTAR
designator L?, comment FIXED_IND_47nH
FIXED IND 47NH 500MA 700 MOHM, Unshielded Multilayer Inductor 700mOhm Max 0603 (1608 Metric) -; Manufacturer: Kyocera AVX; Manufacturer Part Number: LCCI0603J47NGTAR; RoHS: Yes; Stock 1: 4000; Pricing 1: 1=0.10000, 10=0.07600, 25=0.06760, 50=0.05740, 100=0.05070, 250=0.04648, 500=0.04224, 1000=0.03549 (USD); Supplier 1: DigiKey; Supplier 2: Digi-Key; Supplier Part Number 1: 478-LCCI0603J47NGTARCT-ND; Supplier Part Number 2: 478-LCCI0603J47NGTARCT-ND
footprint 1206_Inductor
pins: 1, 2

## MAX487ECPA+
designator U?, comment MAX487CPA+
Interface IC RS422/485 DIL-8, MAX487ECPA+, Maxim; Operating Supply Voltage: 5V; Number of Transmitters: 1; Logic Function: Transceiver; Data Rate: 256Kbps; Max Power Dissipation: 727mW; Output Voltage: 3V; Propagation Delay: 250ns; Max Supply Voltage: 5.25V; Min Supply Voltage: 4.75V; Nominal Supply Current: 250uA; Interface: RS-422,RS-485; Simplex/Duplex: Half Duplex; Supplier 1: Digi-Key; Manufacturer: Maxim; Manufacturer Part Number: MAX487ECPA+; RoHS: Yes; Category: Interface ICs; Stock 1: 285; Pricing 1: 1=4.05000, 10=3.63500, 25=3.43680, 100=3.05500 (USD); Mount: Through Hole; Case/Package: DIP; Number of Pins: 8; Min Operating Temperature: 0°C; Max Operating Temperature: 70°C; Packaging: Rail/Tube; Package Quantity: 50; Number of Receivers: 1; Number of Transceivers: 1; Series: -; Number of Drivers: 1; Supply Current: 250uA; Length: 9.91mm; Width: 7.87mm; Height: 4.45mm; Radiation Hardening: No; Lead Free: Lead Free; RoHS Compliant: Yes; REACH SVHC: No SVHC; ComponentLink1URL: https://datasheet.ciiva.com/16973/0900766b8078aed8-16973392.pdf?src-supplier=Allied+Electronics; ComponentLink1Description: https://datasheet.ciiva.com/16973/0900766b8078aed8-16973392.pdf?src-supplier=Allied+Electronics; ComponentLink2URL: https://datasheet.ciiva.com/16640/max1487e-max491e-16640614.pdf?src-supplier=Avnet+Europe; ComponentLink2Description: https://datasheet.ciiva.com/16640/max1487e-max491e-16640614.pdf?src-supplier=Avnet+Europe; ComponentLink3URL: https://datasheet.ciiva.com/8075/3976-8075401.pdf?src-supplier=Element14; ComponentLink3Description: https://datasheet.ciiva.com/8075/3976-8075401.pdf?src-supplier=Element14; ComponentLink4URL: https://datasheet.ciiva.com/14430/max1487e-max491e-14430329.pdf?src-supplier=Avnet; ComponentLink4Description: https://datasheet.ciiva.com/14430/max1487e-max491e-14430329.pdf?src-supplier=Avnet; ComponentLink5URL: https://datasheet.ciiva.com/14152/jxmax481e-491e-e-14152719.pdf?src-supplier=Distrelec; ComponentLink5Description: https://datasheet.ciiva.com/14152/jxmax481e-491e-e-14152719.pdf?src-supplier=Distrelec; ComponentLink6URL: https://datasheet.ciiva.com/1713/max1487e-max491e-1713146.pdf?src-supplier=Digi-Key; ComponentLink6Description: https://datasheet.ciiva.com/1713/max1487e-max491e-1713146.pdf?src-supplier=Digi-Key; ComponentLink7URL: https://datasheet.ciiva.com/4785/max1487e-max491e-4785914.pdf?src-supplier=Mouser; ComponentLink7Description: https://datasheet.ciiva.com/4785/max1487e-max491e-4785914.pdf?src-supplier=Mouser; Supplier Part Number 1: MAX487ECPA+-ND
footprint SOIC-8 (SOIC, 8-Leads, Body 4.9x3.9mm, Pitch 1.27mm, IPC Low Density)
pins: 1 RO, 2 ~{RE}, 3 DE, 4 DI, 5 GND, 6 A, 7 B, 8 VCC

## MHOLE
designator H?
footprint MHOLE
pins: 1

## Micro_USB_47346-1001
designator J?, comment Micro_USB
CONN RCPT USB2.0 MICRO B SMD R/A; Supplier 1: Digi-Key; Supplier Part Number 1: WM11228CT-ND
footprint Micro_USB_47346- 1001
pins: 1 VBUS (power), 2 D-, 3 D+, 4 ID, 5 GND (power), 6 MNT 1, 7 MNT 2, 8 MNT 3, 9 MNT 4, 10 MNT 5, 11 MNT 6

## MMBT2222A_eec_1
designator Q?, comment MMBT2222A
TRANS NPN 40V 1A SOT-23; Manufacturer: ON Semiconductor; Category 9E07530Daf1645C0: Semiconductors and Actives; Num Pins: 3; voltage_rating_dc: 40.00V; Category 2F8Ae2801E7Ef44D: Uncategorized; Category 3B27F62D0A3Ae0E0: Discretes (diodes, transistors, thyristors ...); power_dissipation: 0.35W; polarity: N-Channel, NPN; Type: transistor; Category D77D1A77E69F0Cba: Transistors; current_rating: .5A; Category B814751E89Ff63D3: BJTs; Symbol 0 0: BJT (NPN); Part Number: MMBT2222A; helpURL: https://upverter.com/upn/revision/feda0579b01a29cc/; ComponentLink2Description: Datasheet; Temperature: -55°C to +150°C; Package: SOT-23; Supplier 2: Mouser; Price: 0.0804309879024; Supplier 1: Digi-Key; ComponentLink1URL: https://upverter.com/upn/revision/feda0579b01a29cc/; Supplier Part Number 2: 512-MMBT2222A; Supplier Part Number 1: MMBT2222AFSCT-ND; ComponentLink1Description: Upverter; ComponentLink2URL: https://www.fairchildsemi.com/datasheets/MM/MMBT2222A.pdf; RoHS: TRUE; Mouser Part Number: 512-MMBT2222A; Category A8D365D999257314: Uncategorized; Temperature Range High: +150°C; Octopart Part Number: 0c07c5085cb0d3c0; Digikey Description: TRANS NPN 40V 1A SOT-23; Digikey Part Number: MMBT2222AFSCT-ND; Lead Free: yes; Category 931F5E15A77D48D8: Uncategorized; Temperature Range Low: -55°C; breakdown_voltage_collector_to_emitter: 40.00V; Mounting Type: surface mount
footprint SOT23_M (SOT23, 3-Leads, Body 3x1.4mm, Pitch 0.95mm, IPC Low Density)
pins: 1 B, 2 E, 3 C

## PTS526SKG15SMTR2LFS
designator SW?, comment Push Button
Switch Tactile N.O. SPST Round Button Gull Wing 0.05A 12VDC 200000Cycles 2.45N SMD T/R; Manufacturer: ITT C&K; Manufacturer Part Number: PTS526SKG15SMTR2LFS; Supplier 1: Digi-Key; RoHS: No; Category: Tactile Switches; Stock 1: 7554; Pricing 1: 1=0.13000, 10=0.12100, 25=0.11480, 100=0.10430, 250=0.09808, 500=0.08972, 1000=0.07511 (USD); Supplier Part Number 1: CKN12223-1-ND
footprint Tactile Switch SPST
pins: 1,2, 3,4

## RC1206FR-072K2L
designator R?, comment 2K2
YAGEO - RC1206FR-072K2L - Surface Mount Chip Resistor, Thick Film, RC Series, 2.2 kohm, 250 mW, 1%, 200 V RoHS Compliant: Yes; Resistance: 2.2kR; Power Rating: 250mW; Temperature Coefficient: 100ppm/°C; Voltage Rating: 200V; Supplier 1: Digi-Key; Manufacturer: Yageo; Manufacturer Part Number: RC1206FR-072K2L; RoHS: Yes; Category: Chip SMD Resistors; Stock 1: 160197; Pricing 1: 1=0.10000, 10=0.07400, 100=0.03010, 1000=0.01353, 2500=0.01174 (USD); Case/Package: 1206; Case Code (Metric): 3216; Case Code (Imperial): 1206; Weight: 0.000571oz; Size Code: 1206; Min Operating Temperature: -55°C; Max Operating Temperature: 155°C; Tolerance: 1%; Packaging: Tape and Reel; Package Quantity: 1; Resistor Type: Thick Film; Number of Terminations: 2; Termination: SMD/SMT; Max Power Dissipation: 250mW; Features: Moisture Resistant; Series: RC; Resistance Tolerance: 1%; Construction: Rectangular; Length: 3.2mm; Width: 1.6mm; Height: 0.55mm; Depth: 1.6mm; REACH SVHC: Unknown; Lead Free: Lead Free; Military Standard: Not; RoHS Compliant: Yes; ComponentLink1URL: https://datasheet.ciiva.com/2461/pyu-rc1206-51-rohs-l-4-2461488.pdf?src-supplier=Digi-Key; ComponentLink1Description: https://datasheet.ciiva.com/2461/pyu-rc1206-51-rohs-l-4-2461488.pdf?src-supplier=Digi-Key; ComponentLink2URL: https://datasheet.ciiva.com/2461/pyu-rc1206-51-rohs-l-4-2461489.pdf?src-supplier=Digi-Key; ComponentLink2Description: https://datasheet.ciiva.com/2461/pyu-rc1206-51-rohs-l-4-2461489.pdf?src-supplier=Digi-Key; ComponentLink3URL: https://datasheet.ciiva.com/2461/pyu-rc1206-51-rohs-l-4-2461490.pdf?src-supplier=Digi-Key; ComponentLink3Description: https://datasheet.ciiva.com/2461/pyu-rc1206-51-rohs-l-4-2461490.pdf?src-supplier=Digi-Key; ComponentLink4URL: https://datasheet.ciiva.com/16978/pyu-rc1206-51-rohs-l-4-16978023.pdf?src-supplier=Future+Electronics; ComponentLink4Description: https://datasheet.ciiva.com/16978/pyu-rc1206-51-rohs-l-4-16978023.pdf?src-supplier=Future+Electronics; Supplier Part Number 1: 311-2.20KFRCT-ND
footprint YAGEO_RC1206-0_65_IPC_A
pins: 1, 2

## RC1206FR-074K7L
designator R?, comment 4K7
4.7 ±1% 0.25W, 1/4W Chip Resistor 1206 (3216 Metric) Moisture Resistant Thick Film; Supplier 1: Arrow Electronics; Supplier Part Number 1: RC1206FR-07 4K7L
footprint YAGEO_RC1206-0_65_IPC_A
pins: 1, 2

## RC1206FR-0710KL
designator R?, comment 10K
10 ±1% 0.25W, 1/4W Chip Resistor 1206 (3216 Metric) Moisture Resistant Thick Film; Supplier 1: Digi-Key; Supplier Part Number 1: 311-10.0KFRCT-ND
footprint YAGEO_RC1206-0_65_IPC_A
pins: 1, 2

## RC1206FR-07100KL
designator R?, comment 100K
100 ±1% 0.25W, 1/4W Chip Resistor 1206 (3216 Metric) Moisture Resistant Thick Film; Supplier 1: Digi-Key; Supplier Part Number 1: 311-100KFRCT-ND
footprint YAGEO_RC1206-0_65_IPC_A
pins: 1, 2

## RC1206JR-071KL
designator R?, comment 1K
1 ±5% 0.25W, 1/4W Chip Resistor 1206 (3216 Metric) Moisture Resistant Thick Film; Supplier 1: Digi-Key; Supplier Part Number 1: 311-1.0KERCT-ND
footprint YAGEO_RC1206-0_65_IPC_A
pins: 1, 2

## RC1206JR-07100RL
designator R?, comment 100R
100 ±5% 0.25W, 1/4W Chip Resistor 1206 (3216 Metric) Moisture Resistant Thick Film; Supplier 1: Newark; Supplier Part Number 1: 12AC2283
footprint YAGEO_RC1206-0_65_IPC_A
pins: 1, 2

## Res_Bourns_4609X-101-102LF
designator R?, comment 1K
RES ARRAY 8 RES 1K OHM 9SIP, 1k Ohm ±2% 200mW Power Per Element Bussed Resistor Network/Array ±100ppm/°C 9-SIP; Manufacturer: Bourns; Part Number: 4610X-101-104LF; Resistance: 100kΩ; Value: 100kΩ; Num Pins: 10; power_rating: 1.25 W; voltage_rating_dc: 100 V; size_length: 25.35 mm; Category 7542B8484461Ae85: Passive Components; size_thickness: 2.49 mm; lead_length: 3.43 mm; Category 917D5C77A0544Aba: Arrays; Temperature_Range_High: +125°C; Category 5A00970A6D5C81C7: Uncategorized; Category 5C6A91606D4187Ad: Resistors; Temperature_Range_Low: -55°C; Category Cd01000Bfc2916C6: Single Components; size_height: 5.08 mm; insulation_resistance: 10 MΩ; helpURL: https://upverter.com/upn/revision/6aaaf76f4c7f149a/; ComponentLink2Description: Datasheet; Temperature: to; Package: SIP-10; Price: 0.285491864114; ComponentLink1URL: https://upverter.com/upn/revision/6aaaf76f4c7f149a/; ComponentLink1Description: Upverter; ComponentLink2URL: http://www.bourns.com/docs/Product-Datasheets/4600x.pdf; RoHS: TRUE; number_of_contacts: 10; Digikey_Description: RES ARRAY 9 RES 100K OHM 10SIP; Mouser_Part_Number: 652-4610X-1LF-100K; Digikey_Part_Number: 4610X-1-104LF-ND; Lead Free: yes; Mounting Type: through hole; size_width: 2.49 mm; resistance_tolerance: ±2%; Octopart Part Number: 2bf2e2f92733f435; Supplier 1: Digi-Key; Supplier Part Number 1: 4609X-101-102LF-ND
footprint 9Pin_Resistor_Array
pins: 1, 2, 3, 4, 5, 6, 7, 8, 9

## Res_Bourns_4610X-101-102LF
designator R?, comment 1K  (value not drawn)
RES ARRAY 9 RES 1K OHM 10SIP, 1k Ohm ±2% 200mW Power Per Element Bussed Resistor Network/Array ±100ppm/°C 10-SIP; Manufacturer: Bourns; Part Number: 4610X-101-104LF; Resistance: 100kΩ; Value: 100kΩ; Num Pins: 10; power_rating: 1.25 W; voltage_rating_dc: 100 V; size_length: 25.35 mm; Category 7542B8484461Ae85: Passive Components; size_thickness: 2.49 mm; lead_length: 3.43 mm; Category 917D5C77A0544Aba: Arrays; Temperature_Range_High: +125°C; Category 5A00970A6D5C81C7: Uncategorized; Category 5C6A91606D4187Ad: Resistors; Temperature_Range_Low: -55°C; Category Cd01000Bfc2916C6: Single Components; size_height: 5.08 mm; insulation_resistance: 10 MΩ; helpURL: https://upverter.com/upn/revision/6aaaf76f4c7f149a/; ComponentLink2Description: Datasheet; Temperature: to; Package: SIP-10; Price: 0.285491864114; ComponentLink1URL: https://upverter.com/upn/revision/6aaaf76f4c7f149a/; ComponentLink1Description: Upverter; ComponentLink2URL: http://www.bourns.com/docs/Product-Datasheets/4600x.pdf; RoHS: TRUE; number_of_contacts: 10; Digikey_Description: RES ARRAY 9 RES 100K OHM 10SIP; Mouser_Part_Number: 652-4610X-1LF-100K; Digikey_Part_Number: 4610X-1-104LF-ND; Lead Free: yes; Mounting Type: through hole; size_width: 2.49 mm; resistance_tolerance: ±2%; Octopart Part Number: 2bf2e2f92733f435; Supplier 1: Digi-Key; Supplier Part Number 1: 4610X-1-102LF-ND
footprint 10Pin_Resistor_Array
pins: 1, 2, 3, 4, 5, 6, 7, 8, 9, 10

## RLB0812-101KL
designator L?, comment 100uH
FIXED IND 100UH 320MA 600 MOHM; Manufacturer: Bourns; Manufacturer Part Number: RLB0812-101KL; Core Material: Ferrite; Tolerance: 10%; Self Resonant Frequency: 4.2MHz; Shielding: Unshielded; DC Resistance (DCR): 600mR; Q Factor: 45; Test Frequency: 796kHz; Lead/Base Style: Radial; Lead Diameter: 0.65mm; Supplier 1: Digi-Key; RoHS: Yes; Category: Fixed Inductors; Stock 1: 1145; Pricing 1: 1=0.40000, 10=0.35200, 25=0.30800, 50=0.26400, 100=0.24200, 250=0.22000, 500=0.20680, 1000=0.15840, 2500=0.14960 (USD); Mount: Through Hole; Case/Package: Radial; Min Operating Temperature: -40°C; Max Operating Temperature: 105°C; Package Quantity: 400; Packaging: Bulk; Current Rating: 320mA; Inductance: 100uH; Max DC Current: 320mA; Termination: Radial; DC Current: 320mA; Series: RLB; Diameter: 6.7mm; Length: 10mm; Height: 0.394inch; Lead Pitch: 3mm; Radiation Hardening: No; Military Standard: Not; RoHS Compliant: Yes; ComponentLink1URL: https://datasheet.ciiva.com/1069/rlb-1069242.pdf?src-supplier=Digi-Key; ComponentLink1Description: https://datasheet.ciiva.com/1069/rlb-1069242.pdf?src-supplier=Digi-Key; ComponentLink2URL: https://datasheet.ciiva.com/4960/rlb-4960710.pdf?src-supplier=Mouser; ComponentLink2Description: https://datasheet.ciiva.com/4960/rlb-4960710.pdf?src-supplier=Mouser; ComponentLink3URL: https://datasheet.ciiva.com/8110/rlb-8110999.pdf?src-supplier=Avnet; ComponentLink3Description: https://datasheet.ciiva.com/8110/rlb-8110999.pdf?src-supplier=Avnet; Supplier Part Number 1: RLB0812-101KL-ND
footprint Radia_03
pins: 1, 2

## SMF05C.TCT
designator *
ESD Suppressor TVS 15KV 6-Pin SC-70 T/R; Manufacturer: Semtech; Manufacturer Part Number: SMF05C.TCT; Direction: Unidirectional; Capacitance: 130pF; Reverse Breakdown Voltage: 6V; Number of Elements: 5; Element Configuration: Common Anode; Reverse Standoff Voltage: 5V; Clamping Voltage: 12.5V; Peak Pulse Power: 100W; Power Line Protection: No; Leakage Current: 5uA; Peak Pulse Current: 8A; Test Current: 1mA; ESD Protection: Yes; Diode Type: ZENER; Supplier 1: Digi-Key; RoHS: Yes; Category: TVS Diodes; Stock 1: 5534; Pricing 1: 1=0.87000, 10=0.76200, 100=0.58440, 500=0.46200, 1000=0.36960 (USD); Mount: Surface Mount; Case/Package: SC; Number of Pins: 6; Min Operating Temperature: -55°C; Max Operating Temperature: 125°C; Packaging: Tape and Reel; Number of Channels: 5; Number of Unidirectional Channels: 5; Min Breakdown Voltage: 6V; Working Voltage: 5V; Polarity: Unidirectional; Max Reverse Leakage Current: 5uA; Max Breakdown Voltage: 6V; Voltage Rating (DC): 5V; Operating Supply Voltage: 5V; Resistor Type: Zener; Series: SMF; Clamping Voltage-Max: 12.5V; Length: 2mm; Width: 1.25mm; Height: 0.9mm; Depth: 1.25mm; Radiation Hardening: No; Lead Free: Lead Free; RoHS Compliant: Yes; ComponentLink1URL: https://datasheet.ciiva.com/338/smf05c-338385.pdf?src-supplier=Digi-Key; ComponentLink1Description: https://datasheet.ciiva.com/338/smf05c-338385.pdf?src-supplier=Digi-Key; ComponentLink2URL: https://datasheet.ciiva.com/18065/getdatasheetpartid-89007-18065142.pdf?src-supplier=Verical; ComponentLink2Description: https://datasheet.ciiva.com/18065/getdatasheetpartid-89007-18065142.pdf?src-supplier=Verical; ComponentLink3URL: https://datasheet.ciiva.com/338/smf05c-338386.pdf?src-supplier=Digi-Key; ComponentLink3Description: https://datasheet.ciiva.com/338/smf05c-338386.pdf?src-supplier=Digi-Key; ComponentLink4URL: https://datasheet.ciiva.com/338/smf05c-338387.pdf?src-supplier=Digi-Key; ComponentLink4Description: https://datasheet.ciiva.com/338/smf05c-338387.pdf?src-supplier=Digi-Key; ComponentLink5URL: https://datasheet.ciiva.com/16387/smf05c-16387308.pdf?src-supplier=Future+Electronics; ComponentLink5Description: https://datasheet.ciiva.com/16387/smf05c-16387308.pdf?src-supplier=Future+Electronics; Supplier Part Number 1: SMF05CCT-ND
footprint ONSC-SC70-6-419B-02_W_V (SOT23, 6-Leads, Body 2x1.25mm, Pitch 0.65mm)
pins: 1 K1, 2 A, 3 K2, 4 K3, 5 K4, 6 K5

## SN74LS245DW
designator U?
Integrated Circuit; Manufacturer_Name: Texas Instruments; Datasheet Link: http://www.ti.com/lit/gpn/sn74ls245; Height: 2.65mm; Manufacturer_Part_Number: SN74LS245DW; Mouser Part Number: 595-SN74LS245DW; Mouser Price/Stock: https://www.mouser.co.uk/ProductDetail/Texas-Instruments/SN74LS245DW/?qs=ZA235jQDfbpxKQZqDHbgmw%3D%3D; Arrow Part Number: SN74LS245DW; Arrow Price/Stock: https://www.arrow.com/en/products/sn74ls245dw/texas-instruments
footprint SOIC127P1030X265-20N
pins: 1 DIR, 2 A1, 3 A2, 4 A3, 5 A4, 6 A5, 7 A6, 8 A7, 9 A8, 10 GND, 11 B8, 12 B7, 13 B6, 14 B5, 15 B4, 16 B3, 17 B2, 18 B1, 19 ~{OE}, 20 VCC

## SRB23A2BBBNN
designator *
CHERRY   SRB23A2BBBNN   SWITCH, ROCKER, SPDT, 10A, 250V, BLACK; Actuator Material: Nylon; Mechanical Life: 100000Cycles; Throw Configuration: SPDT,SPST; Voltage Rating (AC): 125V; Electrical Life: 6000Cycles; Switch Function: On-On; Illumination Type: Illuminated; Contact Resistance: 20mR; Number of Poles: 1; Number of Positions: 2; Approvals: UL,CSA,VDE,CE; Supplier 1: Allied Electronics; Manufacturer: Cherry; Manufacturer Part Number: SRB23A2BBBNN; RoHS: Yes; Category: Rocker Switches; Mount: Panel,Snap in; Contact Plating: Silver; Contact Material: Silver,Copper; Actuator Color: Black; Color: Black; Housing Material: Nylon; Housing Color: Black; Body Material: Nylon; Min Operating Temperature: -20°C; Max Operating Temperature: 65°C; Packaging: Bulk; Termination: Quick Connect; Package Quantity: 100; Orientation: Straight; Max Voltage Rating (AC): 250V; Series: SR; Current Rating: 10A; Actuator Type: Rocker; Contact Current Rating: 10A; Max Current Rating: 10A; Length: 21mm; Height: 0.95inch; Depth: 15mm; RoHS Compliant: Yes; Lead Free: Lead Free; REACH SVHC: Unknown; ComponentLink1URL: https://datasheet.ciiva.com/19460/577416-19460915.pdf?src-supplier=Jameco; ComponentLink1Description: https://datasheet.ciiva.com/19460/577416-19460915.pdf?src-supplier=Jameco; ComponentLink2URL: https://datasheet.ciiva.com/14537/70207340-14537143.pdf?src-supplier=Allied+Electronics; ComponentLink2Description: https://datasheet.ciiva.com/14537/70207340-14537143.pdf?src-supplier=Allied+Electronics; ComponentLink3URL: https://datasheet.ciiva.com/2882/rocker-sr-ppr-2882506.pdf?src-supplier=Digi-Key; ComponentLink3Description: https://datasheet.ciiva.com/2882/rocker-sr-ppr-2882506.pdf?src-supplier=Digi-Key; ComponentLink4URL: https://datasheet.ciiva.com/16183/15sr-series-16183997.pdf?src-supplier=Onlinecomponents.com; ComponentLink4Description: https://datasheet.ciiva.com/16183/15sr-series-16183997.pdf?src-supplier=Onlinecomponents.com; ComponentLink5URL: https://datasheet.ciiva.com/23671/1820583-23671630.pdf?src-supplier=Newark; ComponentLink5Description: https://datasheet.ciiva.com/23671/1820583-23671630.pdf?src-supplier=Newark; ComponentLink6URL: https://datasheet.ciiva.com/7637/1352174-7637199.pdf?src-supplier=Element14; ComponentLink6Description: https://datasheet.ciiva.com/7637/1352174-7637199.pdf?src-supplier=Element14
footprint SRB23A2BBBNN
pins: 1, 2, 3

## SST25VF016B
designator *
footprint SOIC-8 (SOIC, 8-Leads, Body 4.9x3.9mm, Pitch 1.27mm, IPC Low Density)
pins: 1 CE, 2 SO, 3 WP, 4 VSS, 5 SI, 6 SCK, 7 HOLD, 8 VCC

## STM32F103C8T6TR
designator U?
ARM Cortex-M3 32-bit MCU, 64 KB Flash, 20 KB Internal RAM, 37 I/Os, 48-pin LQFP, -40 to 85 degC, Tape and Reel; Operating Frequency(F) (Processor speed) (MHz): 72; Supply Voltage(Vcc) min (V): 2; FLASH Size (Prog) (kB): 64; A/D Converter: 2x12-bit (10 Channel); I/Os (High Current): 37; Internal RAM Size (kB): 20; Core: ARM Cortex-M3; ComponentLink2Description: Datasheet; DatasheetVersion: Rev. 16; Mounting Technology: Surface Mount; ComponentLink3URL: http://www.st.com/st-web-ui/static/active/en/resource/technical/document/datasheet/DM00058181.pdf; ComponentLink3Description: Package Specification; ComponentLink1URL: http://www.st.com/web/en/home.html; ComponentLink1Description: Manufacturer URL; PartNumber: STM32F103C8T6TR; PackageDescription: 48-Pin Low Profile Quad Flat Package, 7 x 7 mm Body, 0.5 mm Pitch; Packing: Tape and Reel; PackageVersion: Rev. 6, 06/2013; ComponentLink2URL: http://www.st.com/st-web-ui/static/active/en/resource/technical/document/datasheet/CD00161566.pdf; PackageReference: LQFP48
footprint STM-LQFP48_N (QFP, 48-Leads, Body 7x7mm, Pitch 0.5mm, IPC Medium Density)
part A pins: 2 PC13-TAMPER-RTC/PC13/TAMPER-RTC, 3 PC14-OSC32_IN/PC14/OSC32_IN, 4 PC15-OSC32_OUT/PC15/OSC32_OUT, 5 PD0/OSC_IN, 6 PD1/OSC_OUT, 7 NRST, 10 PA0-WKUP/PA0/WKUP/USART2_CTS/ADC12_IN0/TIM2_CH1_ETR, 11 PA1/USART2_RTS/ADC12_IN1/TIM2_CH2, 12 PA2/USART2_TX/ADC12_IN2/TIM2_CH3, 13 PA3/USART2_RX/ADC12_IN3/TIM2_CH4, 14 PA4/SPI1_NSS/USART2_CK/ADC12_IN4, 15 PA5/SPI1_SCK/ADC12_IN5, 16 PA6/SPI1_MISO/ADC12_IN6/TIM3_CH1/TIM1_BKIN, 17 PA7/SPI1_MOSI/ADC12_IN7/TIM3_CH2/TIM1_CH1N, 18 PB0/ADC12_IN8/TIM3_CH3/TIM1_CH2N, 19 PB1/ADC12_IN9/TIM3_CH4/TIM1_CH3N, 20 PB2/BOOT1, 21 PB10/I2C2_SCL/USART3_TX/TIM2_CH3, 22 PB11/I2C2_SDA/USART3_RX/TIM2_CH4, 25 PB12/SPI2_NSS/I2C2_SMBAl/USART3_CK/TIM1_BKIN, 26 PB13/SPI2_SCK/USART3_CTS/TIM1_CH1N, 27 PB14/SPI2_MISO/USART3_RTS/TIM1_CH2N, 28 PB15/SPI2_MOSI/TIM1_CH3N, 29 PA8/USART1_CK/TIM1_CH1/MCO, 30 PA9/USART1_TX/TIM1_CH2, 31 PA10/USART1_RX/TIM1_CH3, 32 PA11/USART1_CTS/CANRX/USBDM/TIM1_CH4, 33 PA12/USART1_RTS/CANTX/USBDP/TIM1_ETR, 34 PA13/JTMS/SWDIO, 37 PA14/JTCK/SWCLK, 38 PA15/JTDI/TIM2_CH1_ETR/SPI1_NSS, 39 PB3/JTDO/TIM2_CH2/TRACESWO/SPI1_SCK, 40 PB4/NJTRST/TIM3_CH1/SPI1_MISO, 41 PB5/I2C1_SMBAI/TIM3_CH2/SPI1_MOSI, 42 PB6/I2C1_SCL/TIM4_CH1/USART1_TX, 43 PB7/I2C1_SDA/TIM4_CH2/USART1_RX, 44 BOOT0, 45 PB8/TIM4_CH3/I2C1_SCL/CANRX, 46 PB9/TIM4_CH4/I2C1_SDA/CANTX
part B pins: 1 VBAT (power), 8 VSSA (power), 9 VDDA (power), 23 VSS_1 (power), 24 VDD_1 (power), 35 VSS_2 (power), 36 VDD_2 (power), 47 VSS_3 (power), 48 VDD_3 (power)

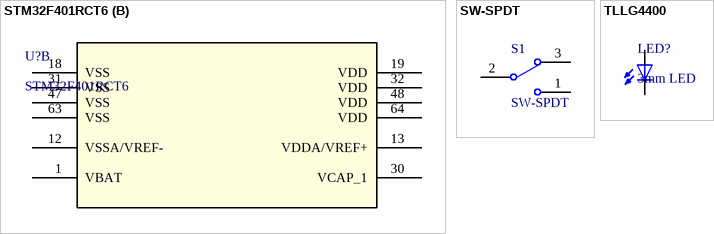
[diagram p2: symbols STM32F401RCT6 to TLLG4400]

## STM32F401RCT6
designator U?
No Description Available; Mfr_Name: STMicroelectronics; Copyright: Copyright (C) 2022 Ultra Librarian. All rights reserved.; Manufacturer_Part_Number: STM32F401RCT6; RefDes: RefDes; Type: DEV
footprint LQFP64-10x10mm
part A pins: 2 PC13 (io), 3 PC14-OSC32_IN (io), 4 PC15-OSC32_OUT (io), 5 PH0-OSC_IN (io), 6 PH1 (io), 7 NRST (io), 8 PC0 (io), 9 PC1 (io), 10 PC2 (io), 11 PC3 (io), 14 PA0 (io), 15 PA1 (io), 16 PA2 (io), 17 PA3 (io), 20 PA4 (io), 21 PA5 (io), 22 PA6 (io), 23 PA7 (io), 24 PC4 (io), 25 PC5 (io), 26 PB0 (io), 27 PB1 (io), 28 PB2 (io), 29 PB10 (io), 33 PB12 (io), 34 PB13 (io), 35 PB14 (io), 36 PB15 (io), 37 PC6 (io), 38 PC7 (io), 39 PC8 (io), 40 PC9 (io), 41 PA8 (io), 42 PA9 (io), 43 PA10 (io), 44 PA11 (io), 45 PA12 (io), 46 PA13 (io), 49 PA14 (io), 50 PA15 (io), 51 PC10 (io), 52 PC11 (io), 53 PC12 (io), 54 PD2 (io), 55 PB3 (io), 56 PB4 (io), 57 PB5 (io), 58 PB6 (io), 59 PB7 (io), 60 BOOT0 (in), 61 PB8 (io), 62 PB9 (io)
part B pins: 1 VBAT (power), 12 VSSA/VREF- (power), 13 VDDA/VREF+ (power), 18 VSS (power), 19 VDD (power), 30 VCAP_1 (power), 31 VSS (power), 32 VDD (power), 47 VSS (power), 48 VDD (power), 63 VSS (power), 64 VDD (power)

## SW-SPDT
designator S1
SPDT Subminiature Toggle Switch, Right Angle Mounting, Vertical Actuation; Published: 24-Mar-1999; LatestRevisionDate: 17-Dec-2003; LatestRevisionNote: Schematic revised, PCB Footprint replaced.; DatasheetVersion: 05-Dec-2000; PackageReference: TL36WW15050; Publisher: Altium Limited; PackageDescription: Switch; 4 Leads; ComponentLink1Description: Manufacturer Link; ComponentLink1URL: http://www.apem.com
footprint TL36WW15050 (Switch; 4 Leads)
pins: 1, 2, 3

## TLLG4400
designator LED?, comment 3mm LED
Green 569nm LED Indication - Discrete 1.9V Radial; MP: TLLG4400; MF: Vishay; Package: Radial Vishay; Value: *; Digi-Key_Purchase_URL: https://www.digikey.com.tr/product-detail/en/vishay-semiconductor-opto-division/TLLG4400-AS12/TLLG4400-AS12TR-ND/6594860?utm_source=snapeda&utm_medium=aggregator&utm_campaign=symbol; Digi-Key_Part_Number: TLLG4400-AS12TR-ND; SnapEDA_Link: https://www.snapeda.com/parts/TLLG4400/Vishay/view-part/268070/?ref=snap
footprint 1206_Inductor
pins: 1, 2